# Altium footprint library BMP388.PcbLib: 2 footprints
Each footprint in its own frame and in the unit in brackets; x right, y up, seen from the top. Pads: shape width x height; smd on the part's side, far side on the other; paste and mask are expansions set on the pad; w line width, h text height; cw(c..) or ccw(c..) is an arc to the next point about the centre after c.
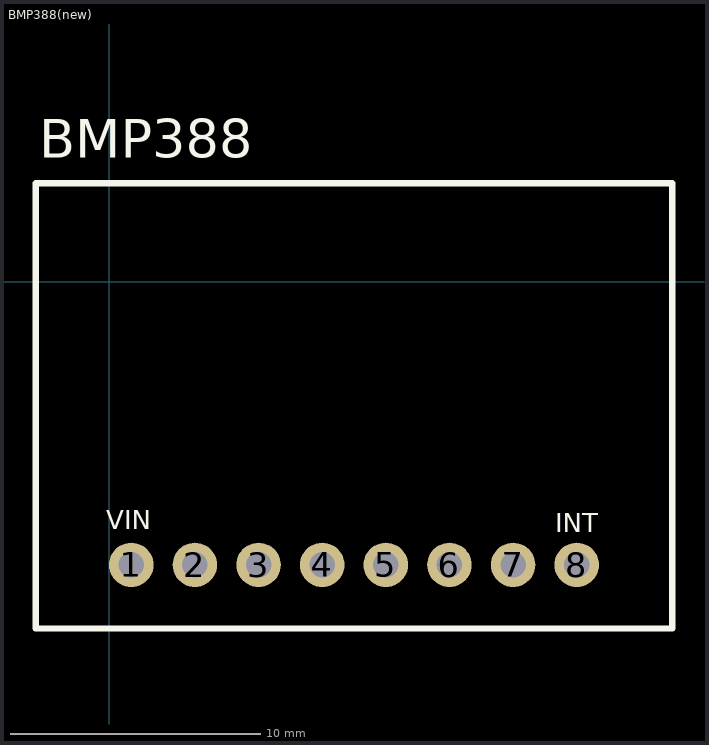
[diagram p0: the footprints below, top view; thin cyan lines are the x and y axes]

## BMP388(new) [mil]
height 200
pads (8):
  round 70 hole 40: 1(35,-445) 2(135,-445) 3(235,-445) 4(335,-445) 5(435,-445) 6(535,-445) 7(635,-445) 8(735,-445)
Top Overlay:
  lines w10: -115,-545 885,-545 885,155 -115,155 -115,-545
  text "BMP388" at -110,195 h60
  text "INT" at 701,-394 h30
  text "VIN" at -4,-389 h30
3D body "4816 BMP390 QT.step": height 278.35, standoff 100, extent -110,-550 890,150

## DIP8 [mil]